# Altium footprint library SOP_80P_M.PcbLib: 9 footprints
Each footprint in its own frame and in the unit in brackets; x right, y up, seen from the top. Pads: shape width x height; smd on the part's side, far side on the other; paste and mask are expansions set on the pad; w line width, h text height; cw(c..) or ccw(c..) is an arc to the next point about the centre after c.
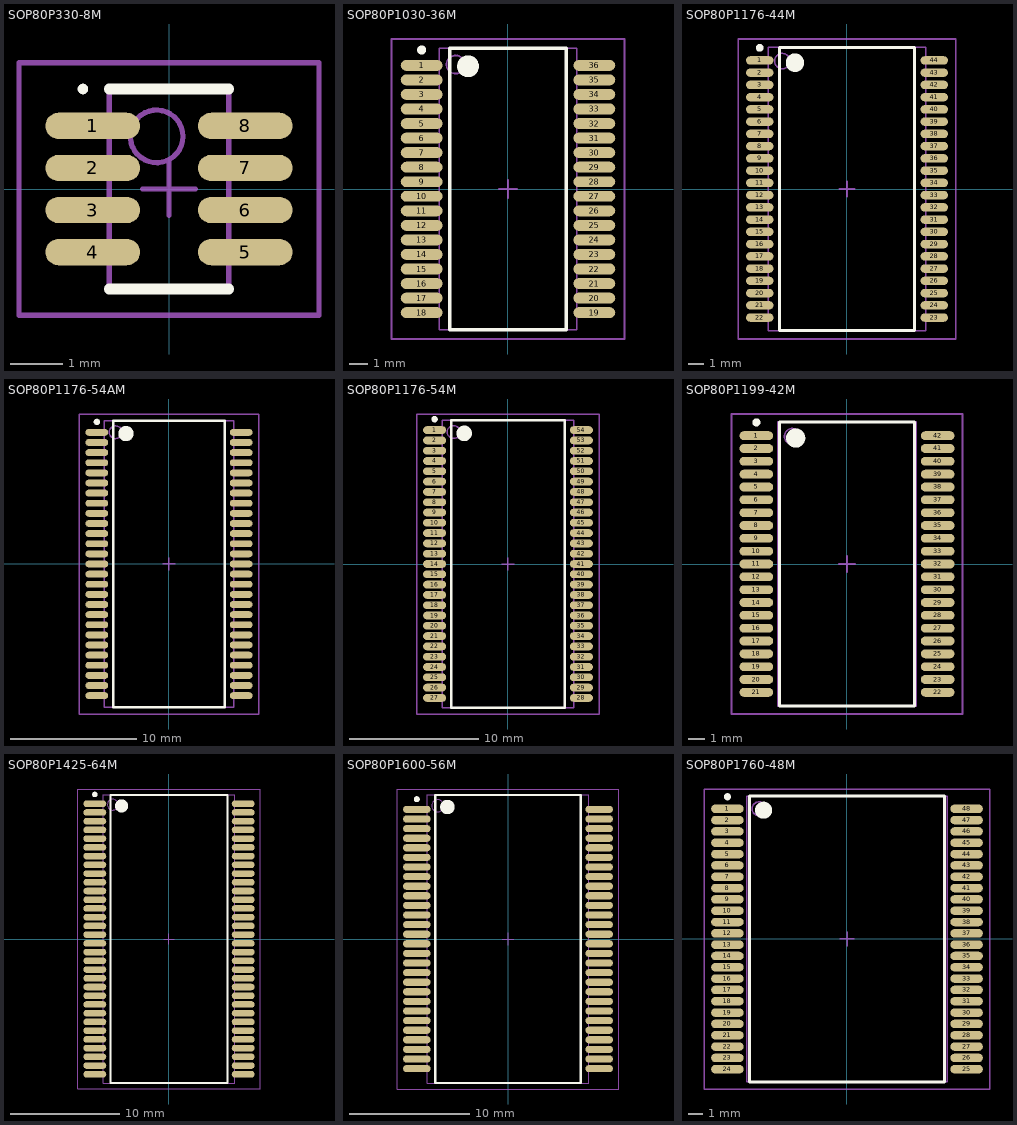
[diagram p0: the footprints below, top view; thin cyan lines are the x and y axes]

## SOP80P330-8M [mm] "SOP, 8-Leads, Body 3.5x2.2mm, Pitch 0.8mm, IPC Low Density"
height 1.4
pads (8):
  oval 1.8x0.5 smd: 1(-1.45,1.2) 2(-1.45,0.4) 3(-1.45,-0.4) 4(-1.45,-1.2) 5(1.45,-1.2) 6(1.45,-0.4) 7(1.45,0.4) 8(1.45,1.2)
Top Overlay:
  circle w0.1: c-1.635,1.9 r0.05
  lines w0.2: -1.135,-1.9 1.135,-1.9 ; -1.135,1.9 1.135,1.9
Mechanical 13:
  circle w0.1: c-0.235,1 r0.5
  lines w0.1: -1.135,-1.9 -1.135,1.9 1.135,1.9 1.135,-1.9 -1.135,-1.9
Mechanical 15:
  lines w0.1: -0.5,0 0.5,0 ; 0,-0.5 0,0.5 ; -2.85,-2.4 -2.85,2.4 2.85,2.4 2.85,-2.4 -2.85,-2.4
3D body: height 1.4, standoff 0, extent -1.135,-1.9 1.135,1.9

## SOP80P1030-36M [mm] "SOP, 36-Leads, Body 15.4x7.5mm, Pitch 0.8mm, IPC Low Density"
height 2.65
pads (36):
  oval 2.3x0.6 smd: 1(-4.75,6.8) 2(-4.75,6) 3(-4.75,5.2) 4(-4.75,4.4) 5(-4.75,3.6) 6(-4.75,2.8) 7(-4.75,2) 8(-4.75,1.2) 9(-4.75,0.4) 10(-4.75,-0.4) 11(-4.75,-1.2) 12(-4.75,-2) 13(-4.75,-2.8) 14(-4.75,-3.6) 15(-4.75,-4.4) 16(-4.75,-5.2) 17(-4.75,-6) 18(-4.75,-6.8) 19(4.75,-6.8) 20(4.75,-6) 21(4.75,-5.2) 22(4.75,-4.4) 23(4.75,-3.6) 24(4.75,-2.8) 25(4.75,-2) 26(4.75,-1.2) 27(4.75,-0.4) 28(4.75,0.4) 29(4.75,1.2) 30(4.75,2) 31(4.75,2.8) 32(4.75,3.6) 33(4.75,4.4) 34(4.75,5.2) 35(4.75,6) 36(4.75,6.8)
Top Overlay:
  circle w0.6: c-2.2,6.75 r0.3
  circle w0.25: c-4.75,7.65 r0.125
  lines w0.2: -3.2,-7.75 3.2,-7.75 3.2,7.75 -3.2,7.75 -3.2,-7.75
Mechanical 13:
  circle w0.1: c-2.885,6.845 r0.5
  lines w0.1: -3.785,-7.745 3.785,-7.745 3.785,7.745 -3.785,7.745 -3.785,-7.745
Mechanical 15:
  lines w0.1: -0.5,0 0.5,0 ; 0,-0.5 0,0.5 ; -6.4,-8.25 6.4,-8.25 6.4,8.25 -6.4,8.25 -6.4,-8.25
3D body: height 2.65, standoff 0, extent -3.785,-7.745 3.785,7.745

## SOP80P1176-44M [mm] "SOP, 44-Leads, Body 18.4x10.16mm, Pitch 0.8mm, IPC Low Density"
height 1.2
pads (44):
  oval 1.8x0.55 smd: 1(-5.7,8.4) 2(-5.7,7.6) 3(-5.7,6.8) 4(-5.7,6) 5(-5.7,5.2) 6(-5.7,4.4) 7(-5.7,3.6) 8(-5.7,2.8) 9(-5.7,2) 10(-5.7,1.2) 11(-5.7,0.4) 12(-5.7,-0.4) 13(-5.7,-1.2) 14(-5.7,-2) 15(-5.7,-2.8) 16(-5.7,-3.6) 17(-5.7,-4.4) 18(-5.7,-5.2) 19(-5.7,-6) 20(-5.7,-6.8) 21(-5.7,-7.6) 22(-5.7,-8.4) 23(5.7,-8.4) 24(5.7,-7.6) 25(5.7,-6.8) 26(5.7,-6) 27(5.7,-5.2) 28(5.7,-4.4) 29(5.7,-3.6) 30(5.7,-2.8) 31(5.7,-2) 32(5.7,-1.2) 33(5.7,-0.4) 34(5.7,0.4) 35(5.7,1.2) 36(5.7,2) 37(5.7,2.8) 38(5.7,3.6) 39(5.7,4.4) 40(5.7,5.2) 41(5.7,6) 42(5.7,6.8) 43(5.7,7.6) 44(5.7,8.4)
Top Overlay:
  circle w0.6: c-3.4,8.25 r0.3
  circle w0.25: c-5.7,9.225 r0.125
  lines w0.2: -4.4,-9.25 4.4,-9.25 4.4,9.25 -4.4,9.25 -4.4,-9.25
Mechanical 13:
  circle w0.1: c-4.23,8.36 r0.5
  lines w0.1: -5.13,-9.26 5.13,-9.26 5.13,9.26 -5.13,9.26 -5.13,-9.26
Mechanical 15:
  lines w0.1: -0.5,0 0.5,0 ; 0,-0.5 0,0.5 ; -7.1,-9.8 7.1,-9.8 7.1,9.8 -7.1,9.8 -7.1,-9.8
3D body: height 1.2, standoff 0, extent -5.13,-9.26 5.13,9.26

## SOP80P1176-54AM [mm] "SOP, 54-Leads, Body 22.5x10.16mm, Pitch 0.8mm, IPC Low Density"
height 1.2
pads (54):
  oval 1.8x0.55 smd: 1(-5.7,10.4) 2(-5.7,9.6) 3(-5.7,8.8) 4(-5.7,8) 5(-5.7,7.2) 6(-5.7,6.4) 7(-5.7,5.6) 8(-5.7,4.8) 9(-5.7,4) 10(-5.7,3.2) 11(-5.7,2.4) 12(-5.7,1.6) 13(-5.7,0.8) 14(-5.7,0) 15(-5.7,-0.8) 16(-5.7,-1.6) 17(-5.7,-2.4) 18(-5.7,-3.2) 19(-5.7,-4) 20(-5.7,-4.8) 21(-5.7,-5.6) 22(-5.7,-6.4) 23(-5.7,-7.2) 24(-5.7,-8) 25(-5.7,-8.8) 26(-5.7,-9.6) 27(-5.7,-10.4) 28(5.7,-10.4) 29(5.7,-9.6) 30(5.7,-8.8) 31(5.7,-8) 32(5.7,-7.2) 33(5.7,-6.4) 34(5.7,-5.6) 35(5.7,-4.8) 36(5.7,-4) 37(5.7,-3.2) 38(5.7,-2.4) 39(5.7,-1.6) 40(5.7,-0.8) 41(5.7,0) 42(5.7,0.8) 43(5.7,1.6) 44(5.7,2.4) 45(5.7,3.2) 46(5.7,4) 47(5.7,4.8) 48(5.7,5.6) 49(5.7,6.4) 50(5.7,7.2) 51(5.7,8) 52(5.7,8.8) 53(5.7,9.6) 54(5.7,10.4)
Top Overlay:
  circle w0.6: c-3.4,10.3 r0.3
  circle w0.25: c-5.7,11.225 r0.125
  lines w0.2: -4.4,-11.3 4.4,-11.3 4.4,11.3 -4.4,11.3 -4.4,-11.3
Mechanical 13:
  circle w0.1: c-4.22,10.41 r0.5
  lines w0.1: -5.12,-11.31 5.12,-11.31 5.12,11.31 -5.12,11.31 -5.12,-11.31
Mechanical 15:
  lines w0.1: -0.5,0 0.5,0 ; 0,-0.5 0,0.5 ; -7.1,-11.85 7.1,-11.85 7.1,11.85 -7.1,11.85 -7.1,-11.85
3D body: height 1.2, standoff 0, extent -5.12,-11.31 5.12,11.31

## SOP80P1176-54M [mm] "SOP, 54-Leads, Body 22.2x10.16mm, Pitch 0.8mm, IPC Low Density"
height 1.2
pads (54):
  oval 1.8x0.6 smd: 1(-5.7,10.4) 2(-5.7,9.6) 3(-5.7,8.8) 4(-5.7,8) 5(-5.7,7.2) 6(-5.7,6.4) 7(-5.7,5.6) 8(-5.7,4.8) 9(-5.7,4) 10(-5.7,3.2) 11(-5.7,2.4) 12(-5.7,1.6) 13(-5.7,0.8) 14(-5.7,0) 15(-5.7,-0.8) 16(-5.7,-1.6) 17(-5.7,-2.4) 18(-5.7,-3.2) 19(-5.7,-4) 20(-5.7,-4.8) 21(-5.7,-5.6) 22(-5.7,-6.4) 23(-5.7,-7.2) 24(-5.7,-8) 25(-5.7,-8.8) 26(-5.7,-9.6) 27(-5.7,-10.4) 28(5.7,-10.4) 29(5.7,-9.6) 30(5.7,-8.8) 31(5.7,-8) 32(5.7,-7.2) 33(5.7,-6.4) 34(5.7,-5.6) 35(5.7,-4.8) 36(5.7,-4) 37(5.7,-3.2) 38(5.7,-2.4) 39(5.7,-1.6) 40(5.7,-0.8) 41(5.7,0) 42(5.7,0.8) 43(5.7,1.6) 44(5.7,2.4) 45(5.7,3.2) 46(5.7,4) 47(5.7,4.8) 48(5.7,5.6) 49(5.7,6.4) 50(5.7,7.2) 51(5.7,8) 52(5.7,8.8) 53(5.7,9.6) 54(5.7,10.4)
Top Overlay:
  circle w0.6: c-3.4,10.15 r0.3
  circle w0.25: c-5.7,11.25 r0.125
  lines w0.2: -4.4,-11.15 4.4,-11.15 4.4,11.15 -4.4,11.15 -4.4,-11.15
Mechanical 13:
  circle w0.1: c-4.22,10.25 r0.5
  lines w0.1: -5.12,-11.15 5.12,-11.15 5.12,11.15 -5.12,11.15 -5.12,-11.15
Mechanical 15:
  lines w0.1: -0.5,0 0.5,0 ; 0,-0.5 0,0.5 ; -7.1,-11.65 7.1,-11.65 7.1,11.65 -7.1,11.65 -7.1,-11.65
3D body: height 1.2, standoff 0, extent -5.12,-11.15 5.12,11.15

## SOP80P1199-42M [mm] "SOP, 42-Leads, Body 17.5x8.4mm, Pitch 0.8mm, IPC Low Density"
height 2.4
pads (42):
  oval 2.1x0.55 smd: 1(-5.65,8) 2(-5.65,7.2) 3(-5.65,6.4) 4(-5.65,5.6) 5(-5.65,4.8) 6(-5.65,4) 7(-5.65,3.2) 8(-5.65,2.4) 9(-5.65,1.6) 10(-5.65,0.8) 11(-5.65,0) 12(-5.65,-0.8) 13(-5.65,-1.6) 14(-5.65,-2.4) 15(-5.65,-3.2) 16(-5.65,-4) 17(-5.65,-4.8) 18(-5.65,-5.6) 19(-5.65,-6.4) 20(-5.65,-7.2) 21(-5.65,-8) 22(5.65,-8) 23(5.65,-7.2) 24(5.65,-6.4) 25(5.65,-5.6) 26(5.65,-4.8) 27(5.65,-4) 28(5.65,-3.2) 29(5.65,-2.4) 30(5.65,-1.6) 31(5.65,-0.8) 32(5.65,0) 33(5.65,0.8) 34(5.65,1.6) 35(5.65,2.4) 36(5.65,3.2) 37(5.65,4) 38(5.65,4.8) 39(5.65,5.6) 40(5.65,6.4) 41(5.65,7.2) 42(5.65,8)
Top Overlay:
  circle w0.6: c-3.2,7.85 r0.3
  circle w0.25: c-5.65,8.825 r0.125
  lines w0.2: -4.2,-8.85 4.2,-8.85 4.2,8.85 -4.2,8.85 -4.2,-8.85
Mechanical 13:
  circle w0.1: c-3.4,7.95 r0.5
  lines w0.1: -4.3,-8.85 4.3,-8.85 4.3,8.85 -4.3,8.85 -4.3,-8.85
Mechanical 15:
  lines w0.1: -0.5,0 0.5,0 ; 0,-0.5 0,0.5 ; -7.2,-9.35 7.2,-9.35 7.2,9.35 -7.2,9.35 -7.2,-9.35
3D body: height 2.4, standoff 0, extent -4.3,-8.85 4.3,8.85

## SOP80P1425-64M [mm] "SOP, 64-Leads, Body 26.4x12.1mm, Pitch 0.8mm, IPC Low Density"
height 2.38
pads (64):
  oval 2.1x0.6 smd: 1(-6.8,12.4) 2(-6.8,11.6) 3(-6.8,10.8) 4(-6.8,10) 5(-6.8,9.2) 6(-6.8,8.4) 7(-6.8,7.6) 8(-6.8,6.8) 9(-6.8,6) 10(-6.8,5.2) 11(-6.8,4.4) 12(-6.8,3.6) 13(-6.8,2.8) 14(-6.8,2) 15(-6.8,1.2) 16(-6.8,0.4) 17(-6.8,-0.4) 18(-6.8,-1.2) 19(-6.8,-2) 20(-6.8,-2.8) 21(-6.8,-3.6) 22(-6.8,-4.4) 23(-6.8,-5.2) 24(-6.8,-6) 25(-6.8,-6.8) 26(-6.8,-7.6) 27(-6.8,-8.4) 28(-6.8,-9.2) 29(-6.8,-10) 30(-6.8,-10.8) 31(-6.8,-11.6) 32(-6.8,-12.4) 33(6.8,-12.4) 34(6.8,-11.6) 35(6.8,-10.8) 36(6.8,-10) 37(6.8,-9.2) 38(6.8,-8.4) 39(6.8,-7.6) 40(6.8,-6.8) 41(6.8,-6) 42(6.8,-5.2) 43(6.8,-4.4) 44(6.8,-3.6) 45(6.8,-2.8) 46(6.8,-2) 47(6.8,-1.2) 48(6.8,-0.4) 49(6.8,0.4) 50(6.8,1.2) 51(6.8,2) 52(6.8,2.8) 53(6.8,3.6) 54(6.8,4.4) 55(6.8,5.2) 56(6.8,6) 57(6.8,6.8) 58(6.8,7.6) 59(6.8,8.4) 60(6.8,9.2) 61(6.8,10) 62(6.8,10.8) 63(6.8,11.6) 64(6.8,12.4)
Top Overlay:
  circle w0.6: c-4.35,12.2 r0.3
  circle w0.25: c-6.8,13.25 r0.125
  lines w0.2: -5.35,-13.2 5.35,-13.2 5.35,13.2 -5.35,13.2 -5.35,-13.2
Mechanical 13:
  circle w0.1: c-5.15,12.315 r0.5
  lines w0.1: -6.05,-13.215 6.05,-13.215 6.05,13.215 -6.05,13.215 -6.05,-13.215
Mechanical 15:
  lines w0.1: -0.5,0 0.5,0 ; 0,-0.5 0,0.5 ; -8.35,-13.75 8.35,-13.75 8.35,13.75 -8.35,13.75 -8.35,-13.75
3D body: height 2.38, standoff 0, extent -6.05,-13.215 6.05,13.215

## SOP80P1600-56M [mm] "SOP, 56-Leads, Body 23.7x13.3mm, Pitch 0.8mm, IPC Low Density"
height 2
pads (56):
  oval 2.3x0.6 smd: 1(-7.6,10.8) 2(-7.6,10) 3(-7.6,9.2) 4(-7.6,8.4) 5(-7.6,7.6) 6(-7.6,6.8) 7(-7.6,6) 8(-7.6,5.2) 9(-7.6,4.4) 10(-7.6,3.6) 11(-7.6,2.8) 12(-7.6,2) 13(-7.6,1.2) 14(-7.6,0.4) 15(-7.6,-0.4) 16(-7.6,-1.2) 17(-7.6,-2) 18(-7.6,-2.8) 19(-7.6,-3.6) 20(-7.6,-4.4) 21(-7.6,-5.2) 22(-7.6,-6) 23(-7.6,-6.8) 24(-7.6,-7.6) 25(-7.6,-8.4) 26(-7.6,-9.2) 27(-7.6,-10) 28(-7.6,-10.8) 29(7.6,-10.8) 30(7.6,-10) 31(7.6,-9.2) 32(7.6,-8.4) 33(7.6,-7.6) 34(7.6,-6.8) 35(7.6,-6) 36(7.6,-5.2) 37(7.6,-4.4) 38(7.6,-3.6) 39(7.6,-2.8) 40(7.6,-2) 41(7.6,-1.2) 42(7.6,-0.4) 43(7.6,0.4) 44(7.6,1.2) 45(7.6,2) 46(7.6,2.8) 47(7.6,3.6) 48(7.6,4.4) 49(7.6,5.2) 50(7.6,6) 51(7.6,6.8) 52(7.6,7.6) 53(7.6,8.4) 54(7.6,9.2) 55(7.6,10) 56(7.6,10.8)
Top Overlay:
  circle w0.6: c-5.05,11 r0.3
  circle w0.25: c-7.6,11.65 r0.125
  lines w0.2: -6.05,-12 6.05,-12 6.05,12 -6.05,12 -6.05,-12
Mechanical 13:
  circle w0.1: c-5.85,11.1 r0.5
  lines w0.1: -6.75,-12 6.75,-12 6.75,12 -6.75,12 -6.75,-12
Mechanical 15:
  lines w0.1: -0.5,0 0.5,0 ; 0,-0.5 0,0.5 ; -9.25,-12.5 9.25,-12.5 9.25,12.5 -9.25,12.5 -9.25,-12.5
3D body: height 2, standoff 0, extent -6.75,-12 6.75,12

## SOP80P1760-48M [mm] "SOP, 48-Leads, Body 20x14mm, Pitch 0.8mm, IPC Low Density"
height 2.3
pads (48):
  oval 2.3x0.6 smd: 1(-8.45,9.2) 2(-8.45,8.4) 3(-8.45,7.6) 4(-8.45,6.8) 5(-8.45,6) 6(-8.45,5.2) 7(-8.45,4.4) 8(-8.45,3.6) 9(-8.45,2.8) 10(-8.45,2) 11(-8.45,1.2) 12(-8.45,0.4) 13(-8.45,-0.4) 14(-8.45,-1.2) 15(-8.45,-2) 16(-8.45,-2.8) 17(-8.45,-3.6) 18(-8.45,-4.4) 19(-8.45,-5.2) 20(-8.45,-6) 21(-8.45,-6.8) 22(-8.45,-7.6) 23(-8.45,-8.4) 24(-8.45,-9.2) 25(8.45,-9.2) 26(8.45,-8.4) 27(8.45,-7.6) 28(8.45,-6.8) 29(8.45,-6) 30(8.45,-5.2) 31(8.45,-4.4) 32(8.45,-3.6) 33(8.45,-2.8) 34(8.45,-2) 35(8.45,-1.2) 36(8.45,-0.4) 37(8.45,0.4) 38(8.45,1.2) 39(8.45,2) 40(8.45,2.8) 41(8.45,3.6) 42(8.45,4.4) 43(8.45,5.2) 44(8.45,6) 45(8.45,6.8) 46(8.45,7.6) 47(8.45,8.4) 48(8.45,9.2)
Top Overlay:
  circle w0.6: c-5.9,9.1 r0.3
  circle w0.25: c-8.45,10.05 r0.125
  lines w0.2: -6.9,-10.1 6.9,-10.1 6.9,10.1 -6.9,10.1 -6.9,-10.1
Mechanical 13:
  circle w0.1: c-6.2,9.2 r0.5
  lines w0.1: -7.1,-10.1 7.1,-10.1 7.1,10.1 -7.1,10.1 -7.1,-10.1
Mechanical 15:
  lines w0.1: -0.5,0 0.5,0 ; 0,-0.5 0,0.5 ; -10.1,-10.6 10.1,-10.6 10.1,10.6 -10.1,10.6 -10.1,-10.6
3D body: height 2.3, standoff 0, extent -7.1,-10.1 7.1,10.1